# Altium footprint library 2440PCBV3.PcbLib: 58 footprints (part 4 of 4)
Each footprint in its own frame and in the unit in brackets; x right, y up, seen from the top. Pads: shape width x height; smd on the part's side, far side on the other; paste and mask are expansions set on the pad; w line width, h text height; cw(c..) or ccw(c..) is an arc to the next point about the centre after c.
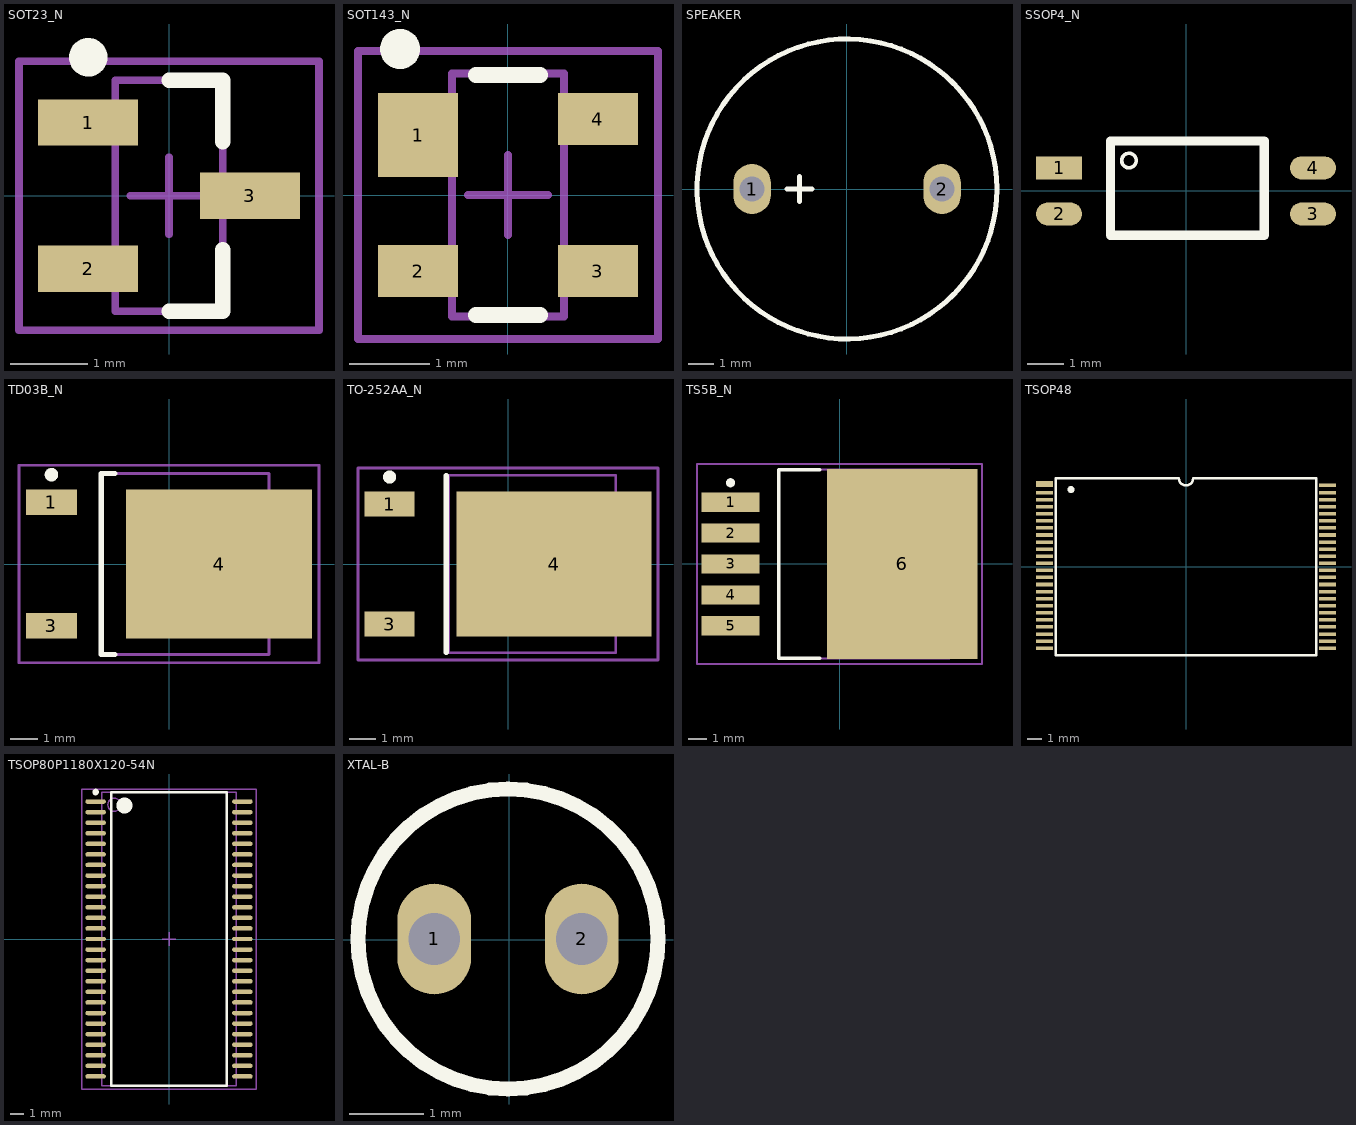
[diagram p3: the footprints below, top view; thin cyan lines are the x and y axes]

## SOT23_N [mm] "SOT23, 3-Leads, Body 2.9x1.3mm, Pitch 0.95mm, Lead Span 2.3mm, IPC Medium Density"
height 1.1
pads (3):
  rect 1.3x0.6 smd: 1(-1.05,0.95) 2(-1.05,-0.95) 3(1.05,0)
Top Overlay:
  circle w0.25: c-1.05,1.8 r0.125
  lines w0.2: 0,-1.5 0.7,-1.5 0.7,-0.7 ; 0,1.5 0.7,1.5 0.7,0.7
Mechanical 13:
  lines w0.1: -0.7,-1.5 -0.7,1.5 0.7,1.5 0.7,-1.5 -0.7,-1.5
Mechanical 15:
  lines w0.1: -0.5,0 0.5,0 ; 0,-0.5 0,0.5 ; -1.95,-1.75 -1.95,1.75 1.95,1.75 1.95,-1.75 -1.95,-1.75
3D body: height 1.1, standoff 0, extent -0.7,-1.5 0.7,1.5

## SOT143_N [mm]
height 1.2
pads (4):
  rect 1x1.05 smd: 1(-1.125,0.75)
  rect 1x0.65 smd: 2(-1.125,-0.95) 3(1.125,-0.95) 4(1.125,0.95)
Top Overlay:
  circle w0.25: c-1.35,1.825 r0.125
  lines w0.2: -0.4,-1.5 0.4,-1.5 ; -0.4,1.5 0.4,1.5
Mechanical 13:
  lines w0.1: -0.7,-1.52 -0.7,1.52 0.7,1.52 0.7,-1.52 -0.7,-1.52
Mechanical 15:
  lines w0.1: -0.5,0 0.5,0 ; 0,-0.5 0,0.5 ; -1.875,-1.8 -1.875,1.8 1.875,1.8 1.875,-1.8 -1.875,-1.8
3D body: height 1.2, standoff 0, extent -0.7,-1.52 0.7,1.52

## SPEAKER [mm]
height 7.8
pads (2):
  oval 1.5x2 hole 1: 1(-3.8,0) 2(3.8,0)
Top Overlay:
  circle w0.2: c0,0 r6
  lines w0.2: -2.405,0 -1.405,0 ; -1.905,-0.508 -1.905,0.492

## SSOP4_N [mm]
pads (4):
  rect 1.27x0.635 smd: 1(-3.5,0.635)
  oval 1.27x0.635 smd: 2(-3.5,-0.635) 3(3.5,-0.635) 4(3.5,0.635)
Top Overlay:
  circle w0.1: c-1.572,0.838 r0.2
  lines w0.254: -2.083,-1.224 2.159,-1.224 2.159,1.376 -2.083,1.376 -2.083,-1.224
3D body: height 1, standoff -1.02, extent -3.495,-1.288 3.505,1.412

## TD03B_N [mm]
height 2.38
pads (3):
  rect 1.9x0.95 smd: 1(-4.35,2.28) 3(-4.35,-2.28)
  rect 6.9x5.5 smd: 4(1.85,0)
Top Overlay:
  circle w0.25: c-4.35,3.305 r0.125
  lines w0.2: -2,-3.35 -2.5,-3.35 -2.5,3.35 -2,3.35
Mechanical 13:
  lines w0.1: -2.5,-3.35 3.7,-3.35 3.7,3.35 -2.5,3.35 -2.5,-3.35
Mechanical 15:
  lines w0.1: -0.5,0 0.5,0 ; 0,-0.5 0,0.5 ; -5.55,-3.65 5.55,-3.65 5.55,3.65 -5.55,3.65 -5.55,-3.65
3D body: height 2.38, standoff 0, extent -2.499,-3.349 3.699,3.349

## TO-252AA_N [mm] "D-PAK, 4-Leads, Body 6.1x6.5mm, Pitch 2.28mm, Lead Span 9.9mm, IPC Medium Density"
height 2.38
pads (3):
  rect 1.9x0.95 smd: 1(-4.5,2.28) 3(-4.5,-2.28)
  rect 7.4x5.5 smd: 4(1.75,0)
Top Overlay:
  circle w0.25: c-4.5,3.305 r0.125
  lines w0.2: -2.35,-3.35 -2.35,3.35
Mechanical 13:
  lines w0.1: -2.25,-3.375 -2.25,3.375 4.1,3.375 4.1,-3.375 -2.25,-3.375
Mechanical 15:
  lines w0.1: -0.5,0 0.5,0 ; 0,-0.5 0,0.5 ; -5.7,-3.65 -5.7,3.65 5.7,3.65 5.7,-3.65 -5.7,-3.65
3D body: height 2.38, standoff 0, extent -2.25,-3.375 4.1,3.375

## TS5B_N [mm]
height 4.65
pads (6):
  rect 3.2x1.05 smd: 1(-6,3.4) 2(-6,1.7) 3(-6,0) 4(-6,-1.7) 5(-6,-3.4)
  rect 8.3x10.45 smd: 6(3.45,0)
Top Overlay:
  circle w0.25: c-6,4.475 r0.125
  lines w0.2: -1.1,-5.2 -3.35,-5.2 -3.35,5.2 -1.1,5.2
Mechanical 13:
  lines w0.1: -3.35,-5.2 6.05,-5.2 6.05,5.2 -3.35,5.2 -3.35,-5.2
Mechanical 15:
  lines w0.1: -0.5,0 0.5,0 ; 0,-0.5 0,0.5 ; -7.85,-5.5 7.85,-5.5 7.85,5.5 -7.85,5.5 -7.85,-5.5
3D body: height 4.65, standoff 0, extent -3.35,-5.2 6.05,5.2

## TSOP48 [mm]
pads (48):
  rect 1.2x0.45 smd: 1(-10,5.85)
  rect 1.2x0.25 smd: 2(-10,5.25) 3(-10,4.75) 4(-10,4.25) 5(-10,3.75) 6(-10,3.25) 7(-10,2.75) 8(-10,2.25) 9(-10,1.75) 10(-10,1.25) 11(-10,0.75) 12(-10,0.25) 13(-10,-0.25) 14(-10,-0.75) 15(-10,-1.25) 16(-10,-1.75) 17(-10,-2.25) 18(-10,-2.75) 19(-10,-3.25) 20(-10,-3.75) 21(-10,-4.25) 22(-10,-4.75) 23(-10,-5.25) 24(-10,-5.75) 25(10,-5.75) 26(10,-5.25) 27(10,-4.75) 28(10,-4.25) 29(10,-3.75) 30(10,-3.25) 31(10,-2.75) 32(10,-2.25) 33(10,-1.75) 34(10,-1.25) 35(10,-0.75) 36(10,-0.25) 37(10,0.25) 38(10,0.75) 39(10,1.25) 40(10,1.75) 41(10,2.25) 42(10,2.75) 43(10,3.25) 44(10,3.75) 45(10,4.25) 46(10,4.75) 47(10,5.25) 48(10,5.75)
Top Overlay:
  circle w0.25: c-8.126,5.461 r0.125
  lines w0.178: -9.2,-6.25 9.2,-6.25 9.2,6.25 0.5,6.25 cw(c0,6.25) -0.5,6.25 -9.2,6.25 -9.2,-6.25
3D body: height 1.2, standoff -0.06, extent -10.077,-6.012 10.023,6.088

## TSOP80P1180X120-54N [mm]
height 1.2
pads (54):
  oval 1.55x0.34 smd: 1(-5.55,10.4) 2(-5.55,9.6) 3(-5.55,8.8) 4(-5.55,8) 5(-5.55,7.2) 6(-5.55,6.4) 7(-5.55,5.6) 8(-5.55,4.8) 9(-5.55,4) 10(-5.55,3.2) 11(-5.55,2.4) 12(-5.55,1.6) 13(-5.55,0.8) 14(-5.55,0) 15(-5.55,-0.8) 16(-5.55,-1.6) 17(-5.55,-2.4) 18(-5.55,-3.2) 19(-5.55,-4) 20(-5.55,-4.8) 21(-5.55,-5.6) 22(-5.55,-6.4) 23(-5.55,-7.2) 24(-5.55,-8) 25(-5.55,-8.8) 26(-5.55,-9.6) 27(-5.55,-10.4) 28(5.55,-10.4) 29(5.55,-9.6) 30(5.55,-8.8) 31(5.55,-8) 32(5.55,-7.2) 33(5.55,-6.4) 34(5.55,-5.6) 35(5.55,-4.8) 36(5.55,-4) 37(5.55,-3.2) 38(5.55,-2.4) 39(5.55,-1.6) 40(5.55,-0.8) 41(5.55,0) 42(5.55,0.8) 43(5.55,1.6) 44(5.55,2.4) 45(5.55,3.2) 46(5.55,4) 47(5.55,4.8) 48(5.55,5.6) 49(5.55,6.4) 50(5.55,7.2) 51(5.55,8) 52(5.55,8.8) 53(5.55,9.6) 54(5.55,10.4)
Top Overlay:
  circle w0.6: c-3.375,10.1 r0.3
  circle w0.25: c-5.55,11.12 r0.125
  lines w0.2: -4.375,-11.1 4.375,-11.1 4.375,11.1 -4.375,11.1 -4.375,-11.1
Mechanical 13:
  circle w0.1: c-4.13,10.16 r0.5
  lines w0.1: -5.08,-11.11 5.08,-11.11 5.08,11.11 -5.08,11.11 -5.08,-11.11
Mechanical 15:
  lines w0.1: -0.5,0 0.5,0 ; 0,-0.5 0,0.5 ; -6.6,-11.35 6.6,-11.35 6.6,11.35 -6.6,11.35 -6.6,-11.35
3D body: height 1.25, standoff 0, extent -5.856,-11.107 5.904,11.113

## XTAL-B [mm]
pads (2):
  oval 1x1.5 hole 0.7: 1(-1.017,0.012) 2(0.983,0.012)
Top Overlay:
  circle w0.2: c-0.017,0.012 r2.032
3D body: height 8.2, standoff -2.95, extent -1.575,-1.586 1.525,1.514